# Altium schematic symbol library MS561101BA03-50.SchLib: 2 symbols
Pins are listed as number, name and electrical type; pins without a type are passive.

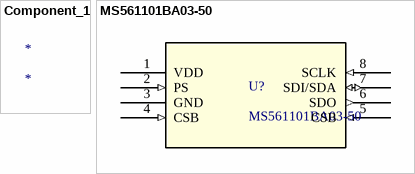
[diagram p0: symbols Component_1 to MS561101BA03-50]

## Component_1
designator *

## MS561101BA03-50
designator U?
No Description Available; Mfr_Name: TE Connectivity; Copyright: Copyright (C) 2022 Ultra Librarian. All rights reserved.; Manufacturer_Part_Number: MS561101BA03-50; Digi-Key_Part_Number_1: 223-1622-1-ND; Digi-Key_Part_Number_2: 223-1622-2-ND; Digi-Key_Part_Number_3: 223-1622-6-ND; RefDes: RefDes; Type: DEV
footprint SON8_MS5611_TEC
pins: 1 VDD (power), 2 PS (in), 3 GND, 4 CSB (in), 5 CSB (in), 6 SDO (out), 7 SDI/SDA (io), 8 SCLK (in)